# Altium footprint library Radial_12-5x16mm.PcbLib: 1 footprints
Each footprint in its own frame and in the unit in brackets; x right, y up, seen from the top. Pads: shape width x height; smd on the part's side, far side on the other; paste and mask are expansions set on the pad; w line width, h text height; cw(c..) or ccw(c..) is an arc to the next point about the centre after c.
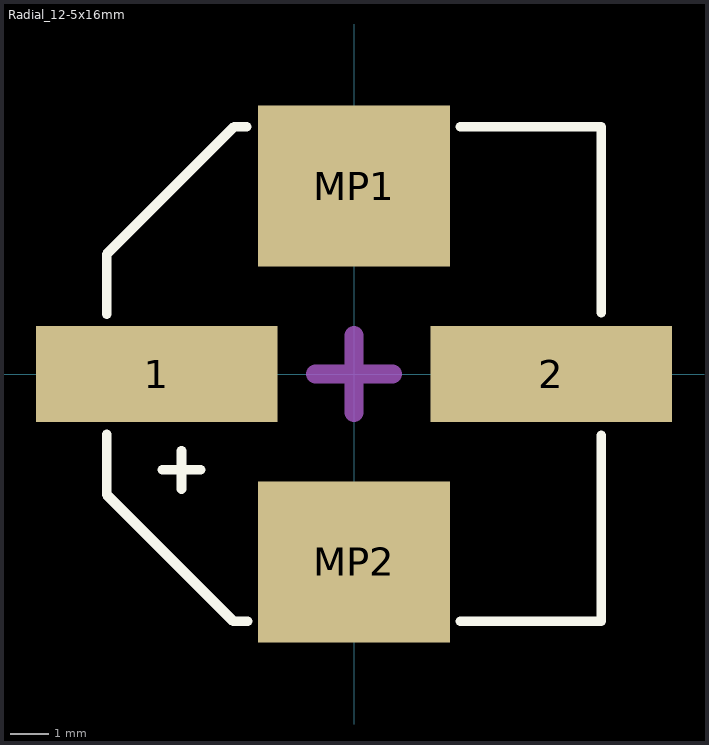
[diagram p0: the footprint, top view; thin cyan lines are the x and y axes]

## Radial_12-5x16mm [mm]
pads (4):
  rect 6.3x2.5 smd mask+0: 1(-5.15,0) 2(5.15,0)
  rect 5x4.2 smd mask+0: MP1(0,4.9) MP2(0,-4.9)
Top Overlay:
  lines w0.254: -6.45,-1.581 -6.45,-3.15 -3.15,-6.45 -2.775,-6.45 ; -6.45,1.556 -6.45,3.125 -3.125,6.45 -2.8,6.45 ; -5,-2.5 -4,-2.5 ; -4.5,-3 -4.5,-2 ; 2.775,-6.45 6.45,-6.45 6.45,-1.6 ; 2.775,6.45 6.45,6.45 6.45,1.6
Mechanical 15:
  lines w0.254: 0,0 0,1
  lines w0.5: -1,0 0,0 1,0 ; 0,-1 0,-0.5 0,1
3D body "MAL215099704E3.stp": height 16.6, standoff 0, extent -8.05,-6.58 8.05,6.58